# EAGLE library part 690207102072 (library Wuerth_Elektronik_eiCan_MiniModule_Connectors_v1.2)
WR-MM Transition Connector, 20 Pins
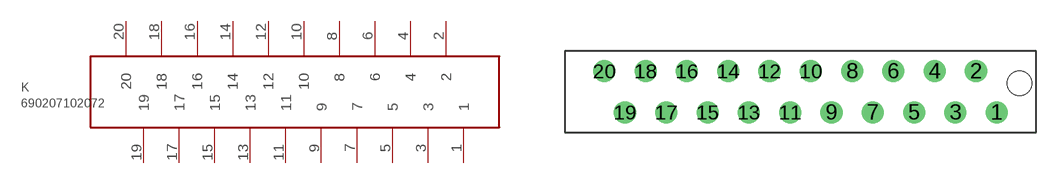
[diagram p72: symbol with the pads of 690207102072; footprint 690207102072]

Designator prefix K

## 690207102072  [690207102072]
1  1  pas
2  2  pas
3  3  pas
4  4  pas
5  5  pas
6  6  pas
7  7  pas
8  8  pas
9  9  pas
10  10  pas
11  11  pas
12  12  pas
13  13  pas
14  14  pas
15  15  pas
16  16  pas
17  17  pas
18  18  pas
19  19  pas
20  20  pas

## Footprint 690207102072 (pad centres in mm)
WR-MM Transition Connector, 20 Pins
drill 0.85 round: 1 4.445,-1.27; 2 3.175,1.27; 3 1.905,-1.27; 4 0.635,1.27; 5 -0.635,-1.27; 6 -1.905,1.27; 7 -3.175,-1.27; 8 -4.445,1.27; 9 -5.715,-1.27; 10 -6.985,1.27; 11 -8.255,-1.27; 12 -9.525,1.27; 13 -10.795,-1.27; 14 -12.065,1.27; 15 -13.335,-1.27; 16 -14.605,1.27; 17 -15.875,-1.27; 18 -17.145,1.27; 19 -18.415,-1.27; 20 -19.685,1.27
hole 1.5 at 5.845,0.53